# EAGLE library part FTSH-105-01-XXX-DV-K*DE (library FTSH-105-01-XXX-DV-KDE)
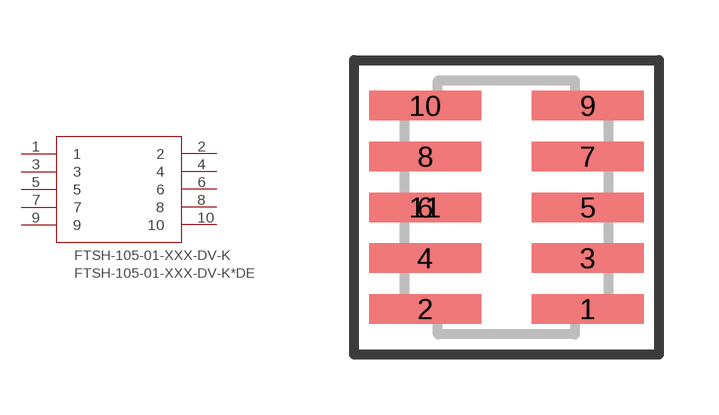
[diagram p0: symbol with the pads of FTSH-105-01-XXX-DV-K; footprint FTSH-105-01-XXX-DV-K]

Designator prefix FTSH-105-01-XXX-DV-K

## FTSH-105-01-XXX-DV-K1DE, FTSH-105-01-XXX-DV-K2DE  [FTSH-105-01-XXX-DV-K]
1  1  pwr
2  2  in
3  3  pwr
4  4  in
5  5  pwr
6  6  in
7  7  pwr
8  8  in
9  9  pwr
10  10  in

## Footprint FTSH-105-01-XXX-DV-K (pad centres in mm)
TERMINAL STRIP, .050 inch(1.27mm) PITCH, 10 PINS, KEYED
smd 2.794 x 0.737: 1 2.032,-2.54; 2 -2.032,-2.54; 3 2.032,-1.27; 4 -2.032,-1.27; 5 2.032,0; 6 -2.032,0; 7 2.032,1.27; 8 -2.032,1.27; 9 2.032,2.54; 10 -2.032,2.54; 11 -2.032,0